# Altium footprint library Capacitors.PcbLib: 4 footprints
Each footprint in its own frame and in the unit in brackets; x right, y up, seen from the top. Pads: shape width x height; smd on the part's side, far side on the other; paste and mask are expansions set on the pad; w line width, h text height; cw(c..) or ccw(c..) is an arc to the next point about the centre after c.
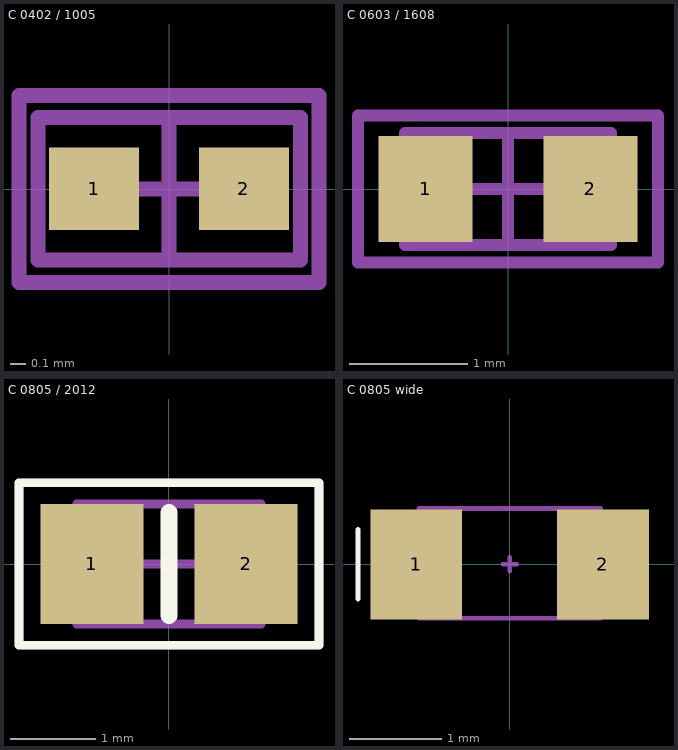
[diagram p0: the footprints below, top view; thin cyan lines are the x and y axes]

## C 0402 / 1005 [mm] "Capacitor 0402 / 1005 (1.0 x 0.5 mm)"
pads (2):
  rect 0.6x0.55 smd: 1(-0.5,0) 2(0.5,0)
Mechanical 13:
  lines w0.1: -0.875,-0.475 0.875,-0.475 0.875,0.475 -0.875,0.475 -0.875,-0.475
Mechanical 15:
  lines w0.1: -0.475,0 0.475,0 ; 0,-0.475 0,0.475 ; -1,-0.625 1,-0.625 1,0.625 -1,0.625 -1,-0.625
3D body: height 0.51, standoff 0, extent -0.508,-0.254 0.508,0.254

## C 0603 / 1608 [mm] "Capacitor 0603 / 1608 (1.6 x 0.8 mm)"
pads (2):
  rect 0.8x0.9 smd: 1(-0.7,0) 2(0.7,0)
Mechanical 13:
  lines w0.1: -0.875,-0.475 -0.875,0.475 0.875,0.475 0.875,-0.475 -0.875,-0.475
Mechanical 15:
  lines w0.1: -0.475,0 0.475,0 ; 0,-0.475 0,0.475 ; -1.275,-0.625 -1.275,0.625 1.275,0.625 1.275,-0.625 -1.275,-0.625
3D body: height 0.3, standoff 0, extent -0.8,-0.4 0.8,0.4

## C 0805 / 2012 [mm] "Capacitor 0805 / 2012 (2.0 x 1.2 mm)"
height 1.3
pads (2):
  rect 1.2x1.4 smd: 1(-0.9,0) 2(0.9,0)
Top Overlay:
  lines w0.1: -1.75,-0.95 -1.75,0.95 1.75,0.95 1.75,-0.95 -1.75,-0.95
  lines w0.2: 0,-0.6 0,0.6
Mechanical 13:
  lines w0.1: -1.075,-0.7 -1.075,0.7 1.075,0.7 1.075,-0.7 -1.075,-0.7
Mechanical 15:
  lines w0.1: -0.5,0 0.5,0 ; 0,-0.5 0,0.5 ; -1.75,-0.95 -1.75,0.95 1.75,0.95 1.75,-0.95 -1.75,-0.95
3D body: height 0.78, standoff 0, extent -1,-0.625 1,0.625

## C 0805 wide [mm]
pads (2):
  rect 1x1.2 smd mask+0.01: 1(-1.016,0) 2(1.016,0)
Top Overlay:
  lines w0.05: -1.651,-0.381 -1.651,0.381
Mechanical 13:
  lines w0.05: -0.991,-0.584 0.991,-0.584 0.991,0.61 -0.991,0.61 -0.991,-0.584
Mechanical 15:
  lines w0.05: -0.076,0 0.076,0 ; 0,-0.076 0,0.076
3D body: height 0.78, standoff 0, extent -1,-0.625 1,0.625